# Altium footprint library SPDT_button.PcbLib: 1 footprints
Each footprint in its own frame and in the unit in brackets; x right, y up, seen from the top. Pads: shape width x height; smd on the part's side, far side on the other; paste and mask are expansions set on the pad; w line width, h text height; cw(c..) or ccw(c..) is an arc to the next point about the centre after c.
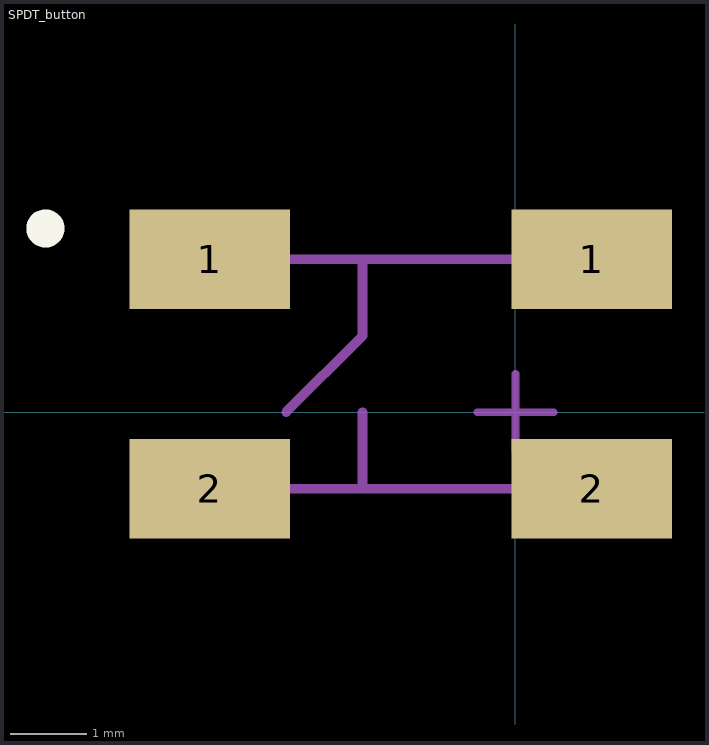
[diagram p0: the footprint, top view; thin cyan lines are the x and y axes]

## SPDT_button [mm]
pads (4):
  rect 2.1x1.3 smd paste+0 mask+0: 1(-4,2) 1(1,2) 2(-4,-1) 2(1,-1)
Top Overlay:
  circle w0.25: c-6.15,2.404 r0.125
Mechanical 1:
  lines w0.127: -4,-1 1,-1 ; -3,0 -2,1 -2,2 ; -3,2 1,2 ; -2,-1 -2,0
Mechanical 5:
  text ".Designator" at 0,-0.001 h1
Mechanical 16:
  lines w0.1: -0.5,0 0.5,0 ; 0,-0.5 0,0.5
3D body "4.5X4.5mm_SPST_button.STEP": height 3.8, standoff 0, extent -4.751,-1.715 1.749,2.785